# Altium footprint library PcbLib1.PcbLib: 22 footprints (part 1 of 2)
Each footprint in its own frame and in the unit in brackets; x right, y up, seen from the top. Pads: shape width x height; smd on the part's side, far side on the other; paste and mask are expansions set on the pad; w line width, h text height; cw(c..) or ccw(c..) is an arc to the next point about the centre after c.
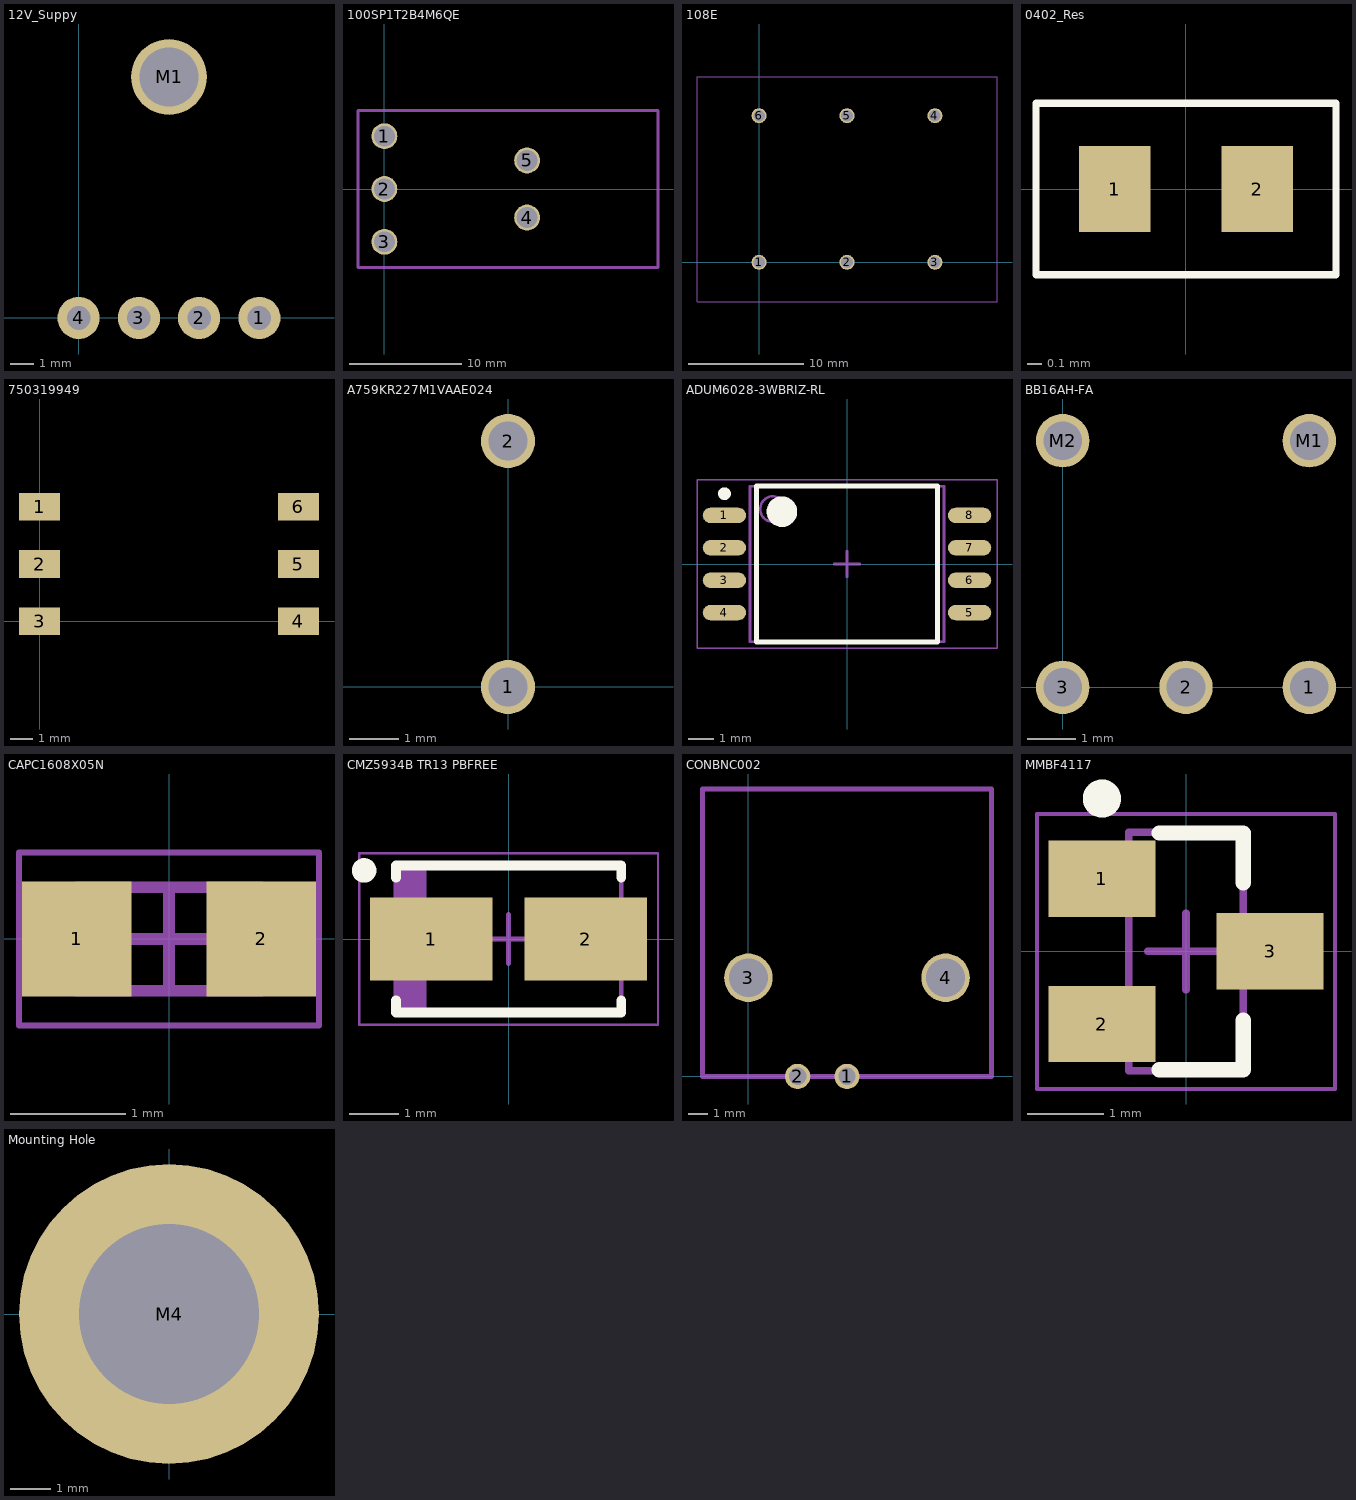
[diagram p0: the footprints below, top view; thin cyan lines are the x and y axes]

## 12V_Suppy [mil]
pads (5):
  round 70 hole 39.37: 1(300,0) 2(200,0) 3(100,0) 4(0,0)
  round 125.98 hole 98.43: M1(150,400)
3D body "Adafruit_TPS61040_Boost_Converter.step": height 150, standoff -16.16, extent -50,-100 354.33,500

## 100SP1T2B4M6QE [mm]
pads (5):
  round 2.3 hole 1.85: 1(0,4.7) 2(0,0) 3(0,-4.7) 4(12.7,-2.54) 5(12.7,2.54)
Mechanical 15:
  lines w0.254: -2.35,-7 24.35,-7 24.35,7 -2.35,7 -2.35,-7
3D body: height 6.72, standoff 0.38, extent 12.7,-3.172 19.8,3.172
3D body: height 5, standoff 2.1, extent 19.8,-1.45 26.66,1.45
3D body: height 6.86, standoff 0, extent 3.81,-6.35 12.7,6.35

## 108E [mm]
pads (6):
  round 1.3 hole 1: 1(0,0) 2(7.62,0) 3(15.24,0) 4(15.24,12.7) 5(7.62,12.7) 6(0,12.7)
Mechanical 13:
  lines w0.1: -5.38,-3.4 20.62,-3.4 20.62,16.1 -5.38,16.1 -5.38,-3.4
3D body: height 2.55, standoff -2.2, extent 7.22,12.3 8.02,13.1
3D body: height 2.55, standoff -2.2, extent 14.84,12.3 15.64,13.1
3D body: height 2.55, standoff -2.2, extent -0.4,-0.4 0.4,0.4
3D body: height 2.55, standoff -2.2, extent 14.84,-0.4 15.64,0.4
3D body: height 2.55, standoff -2.2, extent -0.4,12.3 0.4,13.1
3D body: height 2.55, standoff -2.2, extent 7.22,-0.4 8.02,0.4
3D body: height 20.2, standoff 0.6, extent -5.461,-3.302 20.574,16.129

## 0402_Res [mm]
pads (2):
  rect 0.5x0.6 smd: 1(-0.5,0) 2(0.5,0)
Top Overlay:
  lines w0.05: -1.05,-0.6 1.05,-0.6 1.05,0.6 -1.05,0.6 -1.05,0 -1.05,-0.6

## 0402_Res_Std [mm]

## 750319949 [mm]
pads (6):
  rect 1.82x1.22 smd: 1(0,5.08) 2(0,2.54) 3(0,0) 4(11.45,0) 5(11.45,2.54) 6(11.45,5.08)
3D body: height 5.5, standoff 0, extent 1,-1.8 10.45,6.7

## A759KR227M1VAAE024 [mm]
pads (2):
  round 1.1 hole 0.8: 1(0,0) 2(0,5)
3D body: height 15, standoff 0, extent -5,-2.5 5,7.5
3D body: height 13.4, standoff -1.6, extent -0.3,-0.3 0.3,0.3
3D body: height 17.4, standoff -1.6, extent -0.3,4.7 0.3,5.3

## ADC [mm]

## ADUM6028-3WBRIZ-RL [mm]
height 2.65
pads (8):
  oval 1.7x0.6 smd: 1(-4.8,1.905) 2(-4.8,0.635) 3(-4.8,-0.635) 4(-4.8,-1.905) 5(4.8,-1.905) 6(4.8,-0.635) 7(4.8,0.635) 8(4.8,1.905)
Top Overlay:
  circle w0.6: c-2.55,2.05 r0.3
  circle w0.25: c-4.8,2.755 r0.125
  lines w0.2: -3.55,-3.05 3.55,-3.05 3.55,3.05 -3.55,3.05 -3.55,-3.05
Mechanical 13:
  circle w0.1: c-2.9,2.15 r0.5
  lines w0.1: -3.8,-3.05 3.8,-3.05 3.8,3.05 -3.8,3.05 -3.8,-3.05
Mechanical 15:
  lines w0.05: -5.875,-3.3 5.875,-3.3 5.875,3.3 -5.875,3.3 -5.875,-3.3
  lines w0.1: -0.5,0 0.5,0 ; 0,-0.5 0,0.5
3D body "ADUM6028-3WBRIZ-RL.step": height 2.65, standoff 0, extent -5.155,-3.05 5.155,3.05

## BB16AH-FA [mm]
pads (5):
  round 1.1 hole 0.8: 1(5.08,0) 2(2.54,0) 3(0,0) M1(5.08,5.08) M2(0,5.08)
3D body: height 5.95, standoff 0.85, extent -0.01,15.3 5.09,19.3
3D body: height 4.8, standoff 2, extent 1.14,13.9 3.94,15.3
3D body: height 6.8, standoff 0, extent -1.86,0 6.94,13.9

## CAPC1608X05N [mm] "Chip Capacitor, 2-Leads, Body 1.55x0.85mm, IPC Medium Density"
height 0.5
pads (2):
  rect 0.95x1 smd: 1(-0.8,0) 2(0.8,0)
Mechanical 13:
  lines w0.1: -0.8,-0.45 0.8,-0.45 0.8,0.45 -0.8,0.45 -0.8,-0.45
Mechanical 15:
  lines w0.05: -1.3,-0.75 1.3,-0.75 1.3,0.75 -1.3,0.75 -1.3,-0.75
  lines w0.1: -0.45,0 0.45,0 ; 0,-0.45 0,0.45
3D body "CAPC1608X05N.step": height 0.5, standoff 0, extent -0.8,-0.45 0.8,0.45

## CMZ5934B TR13 PBFREE [mm]
height 2.62
pads (2):
  rect 2.5x1.7 smd: 1(-1.575,0) 2(1.575,0)
Top Overlay:
  circle w0.25: c-2.95,1.4 r0.125
  lines w0.2: -2.3,-1.25 -2.3,-1.5 2.3,-1.5 2.3,-1.25 ; -2.3,1.25 -2.3,1.5 2.3,1.5 2.3,1.25
Mechanical 13:
  rectangle: -2.3,-1.46 -1.681,1.46
  lines w0.1: -2.3,-1.46 -2.3,1.46 2.3,1.46 2.3,-1.46 -2.3,-1.46
Mechanical 15:
  lines w0.05: -3.05,-1.75 -3.05,1.75 3.05,1.75 3.05,-1.75 -3.05,-1.75
  lines w0.1: -0.5,0 0.5,0 ; 0,-0.5 0,0.5
3D body "CMZ5934B TR13 PBFREE.step": height 2.62, standoff 0, extent -2.52,-1.46 2.52,1.46

## CONBNC002 [mm]
pads (4):
  round 1.3 hole 0.89: 1(5.08,0) 2(2.54,0)
  round 2.5 hole 2: 3(0,5.08) 4(10.16,5.08)
Mechanical 15:
  lines w0.254: -2.37,0 12.53,0 12.53,14.8 -2.37,14.8 -2.37,0
3D body: height 13.1, standoff 0, extent -2.37,0 12.53,14.8
3D body: height 11.85, standoff 0.35, extent -0.67,14.85 10.83,35.15

## MMBF4117 [mm]
height 1.2
pads (3):
  rect 1.4x1 smd: 1(-1.1,0.95) 2(-1.1,-0.95) 3(1.1,0)
Top Overlay:
  circle w0.25: c-1.1,2 r0.125
  lines w0.2: -0.35,-1.55 0.75,-1.55 0.75,-0.9 ; -0.35,1.55 0.75,1.55 0.75,0.9
Mechanical 13:
  lines w0.1: -0.75,-1.56 0.75,-1.56 0.75,1.56 -0.75,1.56 -0.75,-1.56
Mechanical 15:
  lines w0.05: -1.95,-1.8 1.95,-1.8 1.95,1.8 -1.95,1.8 -1.95,-1.8
  lines w0.1: -0.5,0 0.5,0 ; 0,-0.5 0,0.5
3D body "MMBF4117.step": height 1.2, standoff 0, extent -1.35,-1.56 1.35,1.56

## Mounting Hole [mm]
pads (1):
  round 7.5 / inner round 2.5 / far side round 7.5 hole 4.5: M4(0,0)

## RPI [mm]
3D body "RASPBERRY PI PICO--3DModel-STEP-269445.STEP": height 3.73, standoff 0, extent -25.5,-10.5 26.8,10.5